# Altium footprint library temporary.PcbLib: 61 footprints (part 4 of 4)
Each footprint in its own frame and in the unit in brackets; x right, y up, seen from the top. Pads: shape width x height; smd on the part's side, far side on the other; paste and mask are expansions set on the pad; w line width, h text height; cw(c..) or ccw(c..) is an arc to the next point about the centre after c.
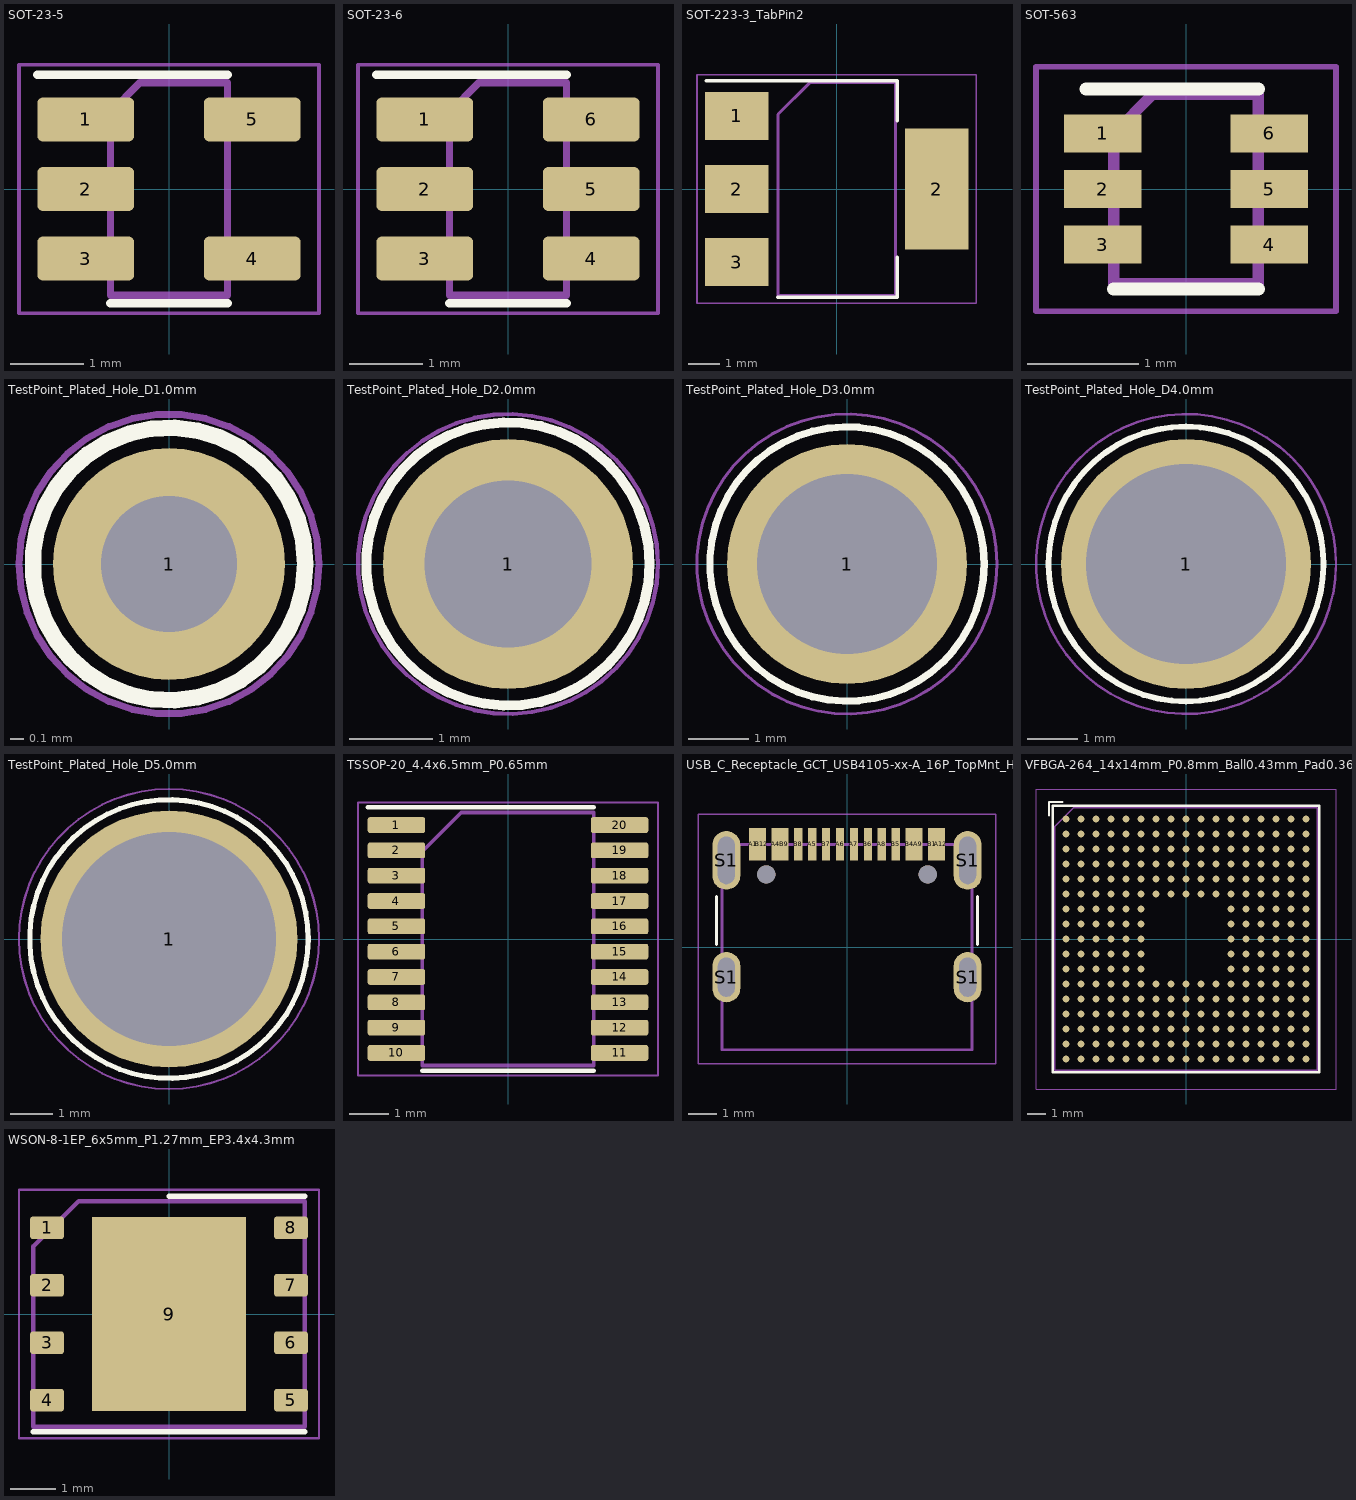
[diagram p3: the footprints below, top view; thin cyan lines are the x and y axes]

## SOT-23-5 [mm]
pads (5):
  rrect25% 1.325x0.6 smd: 1(-1.138,0.95) 2(-1.138,0) 3(-1.138,-0.95) 4(1.138,-0.95) 5(1.138,0.95)
Top Overlay:
  lines w0.12: -1.8,1.56 0.8,1.56 ; -0.8,-1.56 0.8,-1.56
Mechanical 13:
  lines w0.1: -0.8,-1.45 -0.8,1.05 -0.4,1.45 0.8,1.45 0.8,-1.45 -0.8,-1.45
Mechanical 15:
  lines w0.05: -2.05,-1.7 2.05,-1.7 2.05,1.7 -2.05,1.7 -2.05,-1.7
3D body "SOT-23-5.step": height 1.55, standoff 0, extent -1.4,-1.45 1.4,1.45

## SOT-23-6 [mm]
pads (6):
  rrect25% 1.325x0.6 smd: 1(-1.138,0.95) 2(-1.138,0) 3(-1.138,-0.95) 4(1.138,-0.95) 5(1.138,0) 6(1.138,0.95)
Top Overlay:
  lines w0.12: -1.8,1.56 0.8,1.56 ; -0.8,-1.56 0.8,-1.56
Mechanical 13:
  lines w0.1: -0.8,-1.45 0.8,-1.45 0.8,1.45 -0.4,1.45 -0.8,1.05 -0.8,-1.45
Mechanical 15:
  lines w0.05: -2.05,-1.7 -2.05,1.7 2.05,1.7 2.05,-1.7 -2.05,-1.7
3D body "SOT-23-6.step": height 1.55, standoff 0, extent -1.4,-1.45 1.4,1.45

## SOT-223-3_TabPin2 [mm]
pads (4):
  rect 2x1.5 smd: 1(-3.15,2.3) 2(-3.15,0) 3(-3.15,-2.3)
  rect 2x3.8 smd: 2(3.15,0)
Top Overlay:
  lines w0.12: -4.1,3.41 1.91,3.41 1.91,2.15 ; -1.85,-3.41 1.91,-3.41 1.91,-2.15
Mechanical 13:
  lines w0.1: -1.85,-3.35 -1.85,2.35 -0.85,3.35 1.85,3.35 1.85,-3.35 -1.85,-3.35
Mechanical 15:
  lines w0.05: -4.4,-3.6 -4.4,3.6 4.4,3.6 4.4,-3.6 -4.4,-3.6
3D body "SOT-223.step": height 1.7, standoff 0, extent -3.5,-3.25 3.5,3.25

## SOT-563 [mm]
pads (6):
  rect 0.7x0.34 smd: 1(-0.75,0.5) 2(-0.75,0) 3(-0.75,-0.5) 4(0.75,-0.5) 5(0.75,0) 6(0.75,0.5)
Top Overlay:
  lines w0.12: -0.9,0.9 0.65,0.9 ; -0.65,-0.9 0.65,-0.9
Mechanical 13:
  lines w0.1: -0.65,-0.85 -0.65,0.5 -0.3,0.85 0.65,0.85 0.65,-0.85 -0.65,-0.85
Mechanical 15:
  lines w0.05: -1.35,-1.1 -1.35,1.1 1.35,1.1 1.35,-1.1 -1.35,-1.1
3D body "SOT-563.step": height 0.63, standoff 0, extent -0.8,-0.8 0.8,0.8

## TestPoint_Plated_Hole_D1.0mm [mm]
pads (1):
  round 1.7 hole 1: 1(0,0)
Top Overlay:
  circle w0.12: c0,0 r1
Mechanical 15:
  circle w0.05: c0,0 r1.1

## TestPoint_Plated_Hole_D2.0mm [mm]
pads (1):
  round 3 hole 2: 1(0,0)
Top Overlay:
  circle w0.12: c0,0 r1.7
Mechanical 15:
  circle w0.05: c0,0 r1.8

## TestPoint_Plated_Hole_D3.0mm [mm]
pads (1):
  round 4 hole 3: 1(0,0)
Top Overlay:
  circle w0.12: c0,0 r2.286
Mechanical 15:
  circle w0.05: c0,0 r2.5

## TestPoint_Plated_Hole_D4.0mm [mm]
pads (1):
  round 5 hole 4: 1(0,0)
Top Overlay:
  circle w0.12: c0,0 r2.75
Mechanical 15:
  circle w0.05: c0,0 r3

## TestPoint_Plated_Hole_D5.0mm [mm]
pads (1):
  round 6 hole 5: 1(0,0)
Top Overlay:
  circle w0.12: c0,0 r3.25
Mechanical 15:
  circle w0.05: c0,0 r3.5

## TSSOP-20_4.4x6.5mm_P0.65mm [mm]
pads (20):
  rrect25% 1.475x0.4 smd: 1(-2.863,2.925) 2(-2.863,2.275) 3(-2.863,1.625) 4(-2.863,0.975) 5(-2.863,0.325) 6(-2.863,-0.325) 7(-2.863,-0.975) 8(-2.863,-1.625) 9(-2.863,-2.275) 10(-2.863,-2.925) 11(2.863,-2.925) 12(2.863,-2.275) 13(2.863,-1.625) 14(2.863,-0.975) 15(2.863,-0.325) 16(2.863,0.325) 17(2.863,0.975) 18(2.863,1.625) 19(2.863,2.275) 20(2.863,2.925)
Top Overlay:
  lines w0.12: -3.6,3.385 2.2,3.385 ; -2.2,-3.385 2.2,-3.385
Mechanical 13:
  lines w0.1: -2.2,-3.25 2.2,-3.25 2.2,3.25 -1.2,3.25 -2.2,2.25 -2.2,-3.25
Mechanical 15:
  lines w0.05: -3.85,-3.5 -3.85,3.5 3.85,3.5 3.85,-3.5 -3.85,-3.5
3D body "TSSOP-20_4.4x6.5mm_P0.65mm.step": height 1.2, standoff 0, extent -3.2,-3.25 3.2,3.25

## USB_C_Receptacle_GCT_USB4105-xx-A_16P_TopMnt_Horizontal [mm]
pads (22):
  rect 0.3x1.15 smd: A1(-3.35,3.68) A4(-2.55,3.68) A5(-1.25,3.68) A6(-0.25,3.68) A7(0.25,3.68) A8(1.25,3.68) A9(2.55,3.68) A12(3.35,3.68) B1(3.05,3.68) B4(2.25,3.68) B5(1.75,3.68) B6(0.75,3.68) B7(-0.75,3.68) B8(-1.75,3.68) B9(-2.25,3.68) B12(-3.05,3.68)
  oval 1x1.8 hole 0.6 slot 1.4 at 90 deg: S1(-4.32,-1.075) S1(4.32,-1.075)
  oval 1x2.1 hole 0.6 slot 1.7 at 90 deg: S1(-4.32,3.105) S1(4.32,3.105)
  round 0.65 hole 0.65 unplated: ""(-2.89,2.605) ""(2.89,2.605)
Top Overlay:
  lines w0.12: -4.67,0.1 -4.67,1.8 ; 4.67,0.1 4.67,1.8
Mechanical 13:
  lines w0.1: -4.47,-3.675 4.47,-3.675 4.47,3.675 -4.47,3.675 -4.47,-3.675
Mechanical 15:
  lines w0.05: -5.32,-4.18 -5.32,4.76 5.32,4.76 5.32,-4.18 -5.32,-4.18
3D body "USB_C_Receptacle_GCT_USB4105-xx-A_16P_TopMnt_Horizontal.step": height 3.31, standoff -0.95, extent -4.47,-3.675 4.47,4.105

## VFBGA-264_14x14mm_P0.8mm_Ball0.43mm_Pad0.36mm [mm]
pads (264):
  round 0.36 smd mask-2539.97: A1(-6.4,6.4) A2(-5.6,6.4) A3(-4.8,6.4) A4(-4,6.4) A5(-3.2,6.4) A6(-2.4,6.4) A7(-1.6,6.4) A8(-0.8,6.4) A9(0,6.4) A10(0.8,6.4) A11(1.6,6.4) A12(2.4,6.4) A13(3.2,6.4) A14(4,6.4) A15(4.8,6.4) A16(5.6,6.4) A17(6.4,6.4) B1(-6.4,5.6) B2(-5.6,5.6) B3(-4.8,5.6) B4(-4,5.6) B5(-3.2,5.6) B6(-2.4,5.6) B7(-1.6,5.6) B8(-0.8,5.6) B9(0,5.6) B10(0.8,5.6) B11(1.6,5.6) B12(2.4,5.6) B13(3.2,5.6) B14(4,5.6) B15(4.8,5.6) B16(5.6,5.6) B17(6.4,5.6) C1(-6.4,4.8) C2(-5.6,4.8) C3(-4.8,4.8) C4(-4,4.8) C5(-3.2,4.8) C6(-2.4,4.8) C7(-1.6,4.8) C8(-0.8,4.8) C9(0,4.8) C10(0.8,4.8) C11(1.6,4.8) C12(2.4,4.8) C13(3.2,4.8) C14(4,4.8) C15(4.8,4.8) C16(5.6,4.8) C17(6.4,4.8) D1(-6.4,4) D2(-5.6,4) D3(-4.8,4) D4(-4,4) D5(-3.2,4) D6(-2.4,4) D7(-1.6,4) D8(-0.8,4) D9(0,4) D10(0.8,4) D11(1.6,4) D12(2.4,4) D13(3.2,4) D14(4,4) D15(4.8,4) D16(5.6,4) D17(6.4,4) E1(-6.4,3.2) E2(-5.6,3.2) E3(-4.8,3.2) E4(-4,3.2) E5(-3.2,3.2) E6(-2.4,3.2) E7(-1.6,3.2) E8(-0.8,3.2) E9(0,3.2) E10(0.8,3.2) E11(1.6,3.2) E12(2.4,3.2) E13(3.2,3.2) E14(4,3.2) E15(4.8,3.2) E16(5.6,3.2) E17(6.4,3.2) F1(-6.4,2.4) F2(-5.6,2.4) F3(-4.8,2.4) F4(-4,2.4) F5(-3.2,2.4) F6(-2.4,2.4) F7(-1.6,2.4) F8(-0.8,2.4) F9(0,2.4) F10(0.8,2.4) F11(1.6,2.4) F12(2.4,2.4) F13(3.2,2.4) F14(4,2.4) F15(4.8,2.4) F16(5.6,2.4) F17(6.4,2.4) G1(-6.4,1.6) G2(-5.6,1.6) G3(-4.8,1.6) G4(-4,1.6) G5(-3.2,1.6) G6(-2.4,1.6) G12(2.4,1.6) G13(3.2,1.6) G14(4,1.6) G15(4.8,1.6) G16(5.6,1.6) G17(6.4,1.6) H1(-6.4,0.8) H2(-5.6,0.8) H3(-4.8,0.8) H4(-4,0.8) H5(-3.2,0.8) H6(-2.4,0.8) H12(2.4,0.8) H13(3.2,0.8) H14(4,0.8) H15(4.8,0.8) H16(5.6,0.8) H17(6.4,0.8) J1(-6.4,0) J2(-5.6,0) J3(-4.8,0) J4(-4,0) J5(-3.2,0) J6(-2.4,0) J12(2.4,0) J13(3.2,0) J14(4,0) J15(4.8,0) J16(5.6,0) J17(6.4,0) K1(-6.4,-0.8) K2(-5.6,-0.8) K3(-4.8,-0.8) K4(-4,-0.8) K5(-3.2,-0.8) K6(-2.4,-0.8) K12(2.4,-0.8) K13(3.2,-0.8) K14(4,-0.8) K15(4.8,-0.8) K16(5.6,-0.8) K17(6.4,-0.8) L1(-6.4,-1.6) L2(-5.6,-1.6) L3(-4.8,-1.6) L4(-4,-1.6) L5(-3.2,-1.6) L6(-2.4,-1.6) L12(2.4,-1.6) L13(3.2,-1.6) L14(4,-1.6) L15(4.8,-1.6) L16(5.6,-1.6) L17(6.4,-1.6) M1(-6.4,-2.4) M2(-5.6,-2.4) M3(-4.8,-2.4) M4(-4,-2.4) M5(-3.2,-2.4) M6(-2.4,-2.4) M7(-1.6,-2.4) M8(-0.8,-2.4) M9(0,-2.4) M10(0.8,-2.4) M11(1.6,-2.4) M12(2.4,-2.4) M13(3.2,-2.4) M14(4,-2.4) M15(4.8,-2.4) M16(5.6,-2.4) M17(6.4,-2.4) N1(-6.4,-3.2) N2(-5.6,-3.2) N3(-4.8,-3.2) N4(-4,-3.2) N5(-3.2,-3.2) N6(-2.4,-3.2) N7(-1.6,-3.2) N8(-0.8,-3.2) N9(0,-3.2) N10(0.8,-3.2) N11(1.6,-3.2) N12(2.4,-3.2) N13(3.2,-3.2) N14(4,-3.2) N15(4.8,-3.2) N16(5.6,-3.2) N17(6.4,-3.2) P1(-6.4,-4) P2(-5.6,-4) P3(-4.8,-4) P4(-4,-4) P5(-3.2,-4) P6(-2.4,-4) P7(-1.6,-4) P8(-0.8,-4) P9(0,-4) P10(0.8,-4) P11(1.6,-4) P12(2.4,-4) P13(3.2,-4) P14(4,-4) P15(4.8,-4) P16(5.6,-4) P17(6.4,-4) R1(-6.4,-4.8) R2(-5.6,-4.8) R3(-4.8,-4.8) R4(-4,-4.8) R5(-3.2,-4.8) R6(-2.4,-4.8) R7(-1.6,-4.8) R8(-0.8,-4.8) R9(0,-4.8) R10(0.8,-4.8) R11(1.6,-4.8) R12(2.4,-4.8) R13(3.2,-4.8) R14(4,-4.8) R15(4.8,-4.8) R16(5.6,-4.8) R17(6.4,-4.8) T1(-6.4,-5.6) T2(-5.6,-5.6) T3(-4.8,-5.6) T4(-4,-5.6) T5(-3.2,-5.6) T6(-2.4,-5.6) T7(-1.6,-5.6) T8(-0.8,-5.6) T9(0,-5.6) T10(0.8,-5.6) T11(1.6,-5.6) T12(2.4,-5.6) T13(3.2,-5.6) T14(4,-5.6) T15(4.8,-5.6) T16(5.6,-5.6) T17(6.4,-5.6) U1(-6.4,-6.4) U2(-5.6,-6.4) U3(-4.8,-6.4) U4(-4,-6.4) U5(-3.2,-6.4) U6(-2.4,-6.4) U7(-1.6,-6.4) U8(-0.8,-6.4) U9(0,-6.4) U10(0.8,-6.4) U11(1.6,-6.4) U12(2.4,-6.4) U13(3.2,-6.4) U14(4,-6.4) U15(4.8,-6.4) U16(5.6,-6.4) U17(6.4,-6.4)
Top Overlay:
  lines w0.12: -7.3,6.6 -7.3,7.3 -6.6,7.3 ; -7.11,-7.11 -7.11,7.11 7.11,7.11 7.11,-7.11 -7.11,-7.11
Top Solder:
  drawing of 264 lines, arcs and shapes, not listed
Mechanical 13:
  lines w0.1: -7,-7 7,-7 7,7 -6,7 -7,6 -7,-7
Mechanical 15:
  lines w0.05: -8,-8 8,-8 8,8 -8,8 -8,-8
3D body "BGA264C80P17X17_1400X1400X100.step": height 1, standoff 0, extent -7,-7 7,7

## WSON-8-1EP_6x5mm_P1.27mm_EP3.4x4.3mm [mm]
pads (9):
  rrect25% 0.75x0.5 smd: 1(-2.7,1.905) 2(-2.7,0.635) 3(-2.7,-0.635) 4(-2.7,-1.905) 5(2.7,-1.905) 6(2.7,-0.635) 7(2.7,0.635) 8(2.7,1.905)
  rect 3.4x4.3 smd: 9(0,0)
Top Overlay:
  lines w0.12: -3,-2.61 3,-2.61 ; 0,2.61 3,2.61
Mechanical 13:
  lines w0.1: -3,-2.5 -3,1.5 -2,2.5 3,2.5 3,-2.5 -3,-2.5
Mechanical 15:
  lines w0.05: -3.32,-2.75 3.32,-2.75 3.32,2.75 -3.32,2.75 -3.32,-2.75
3D body "SON127P600X75_HS-9N.step": height 0.75, standoff 0, extent -3.02,-2.5 3.02,2.5